# EAGLE library part LPS25H (library chips_old)
ST-Micro Piezoresistive pressure sensor
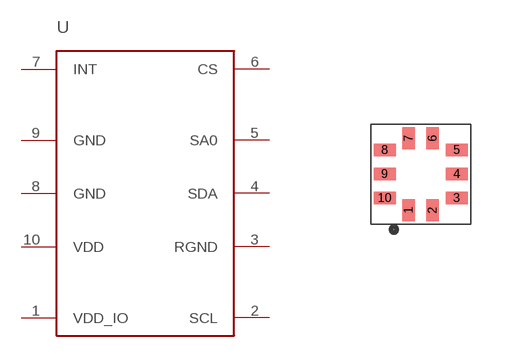
[diagram p23: symbol with the pads of LPS25H; footprint LPS25H]

Designator prefix -

## LPS25H (DIGIKEY: 497-15070-1-ND)  [LPS25H]
1  VDD_IO  pwr
2  SCL
3  RGND
4  SDA
5  SA0
6  CS
7  INT
8  GND  pwr
9  GND  pwr
10  VDD  pwr

## Footprint LPS25H (pad centres in mm)
LPS25H piezoresistive pressure sensor
smd 0.32 x 0.55: 1 -0.3,-0.9; 2 0.3,-0.9; 6 0.3,0.9; 7 -0.3,0.9
smd 0.55 x 0.32: 3 0.9,-0.6; 4 0.9,0; 5 0.9,0.6; 8 -0.9,0.6; 9 -0.9,0; 10 -0.9,-0.6